# Altium schematic symbol library FT232.SchLib: 1 symbol
Pins are listed as number, name and electrical type; pins without a type are passive.

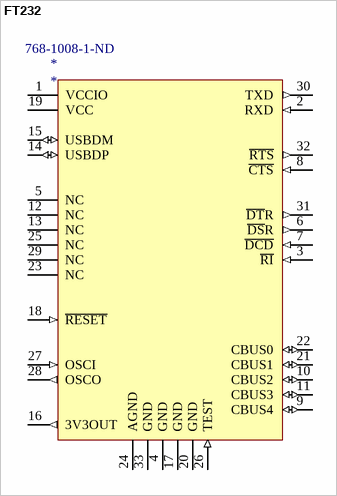
[diagram p0: symbol FT232]

## FT232
designator *  Supplier Part Number 1: 768-1008-1-ND
Supplier 1: Digi-Key
footprint QFN32
pins: 1 VCCIO (power), 2 RXD (in), 3 ~{RI} (in), 4 GND, 5 NC, 6 ~{DS}R (out), 7 ~{DCD} (in), 8 ~{CTS} (in), 9 CBUS4 (io), 10 CBUS2 (io), 11 CBUS3 (io), 12 NC, 13 NC, 14 USBDP (io), 15 USBDM (io), 16 3V3OUT (out), 17 GND, 18 ~{RESET} (in), 19 VCC (power), 20 GND, 21 CBUS1 (io), 22 CBUS0 (io), 23 NC, 24 AGND, 25 NC, 26 TEST (in), 27 OSCI (in), 28 OSCO (out), 29 NC, 30 TXD (out), 31 ~{DT}R (out), 32 ~{RTS} (out), 33 GND